# Altium footprint library STM32F334C6T6.PcbLib: 3 footprints
Each footprint in its own frame and in the unit in brackets; x right, y up, seen from the top. Pads: shape width x height; smd on the part's side, far side on the other; paste and mask are expansions set on the pad; w line width, h text height; cw(c..) or ccw(c..) is an arc to the next point about the centre after c.
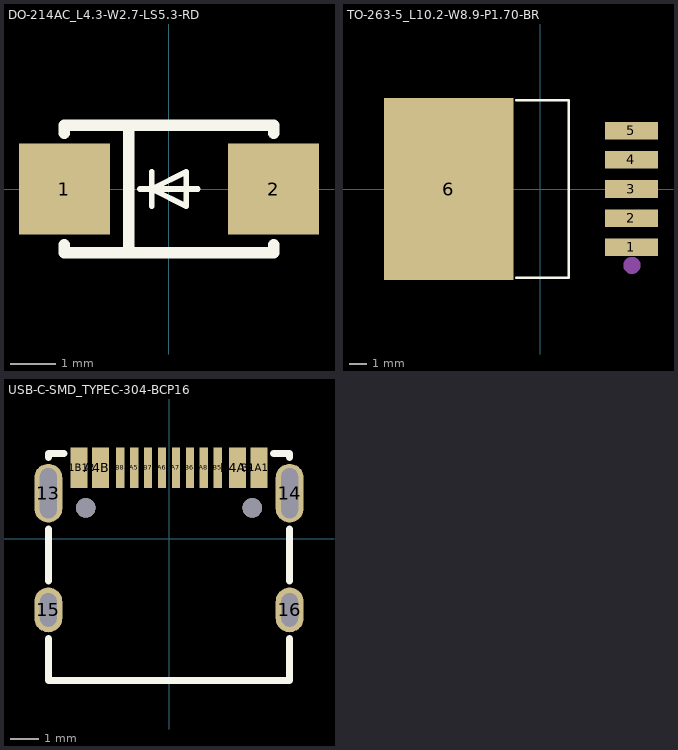
[diagram p0: the footprints below, top view; thin cyan lines are the x and y axes]

## DO-214AC_L4.3-W2.7-LS5.3-RD [mm]
pads (2):
  rect 2x2 smd: 1(-2.3,0) 2(2.3,0)
Top Overlay:
  lines w0.127: -0.635,0 0.635,0 ; -0.381,-0.381 -0.381,0 ; -0.381,0.381 -0.381,0 ; -0.381,0 0.381,-0.381 0.381,0 0.381,0.381 -0.381,0
  lines w0.254: -2.3,-1.231 -2.3,-1.4 2.3,-1.4 2.3,-1.231 ; -2.3,1.231 -2.3,1.4 2.3,1.4 2.3,1.231 ; -0.889,-1.4 -0.889,1.4
Mechanical 15:
  region: -2.98,-0.157 -2.983,-0.14 -2.983,0.076 -1.619,0.074 -1.61,0.053 -1.61,-0.164
  region: 2.281,0.447 2.281,-0.425 2.283,-0.427 2.39,-0.427 2.395,-0.422 2.395,0.447 2.39,0.452 2.273,0.452
  region: 2.995,0.028 1.617,0.028 1.617,0.136 1.72,0.142 2.987,0.14 2.991,0.144 2.991,0.032 2.993,0.03

## TO-263-5_L10.2-W8.9-P1.70-BR [mm]
pads (6):
  rect 3.083x1.02 smd: 1(5.31,-3.4) 2(5.31,-1.7) 3(5.31,0) 4(5.31,1.7) 5(5.31,3.4)
  rect 7.521x10.566 smd: 6(-5.31,0)
Top Overlay:
  lines w0.15: 1.182,-5.156 1.651,-5.156 ; 1.182,5.156 1.651,5.156
  lines w0.152: -1.397,-5.156 1.182,-5.156 ; -1.397,5.156 1.182,5.156 ; 1.651,-5.156 1.651,5.156
Mechanical 15:
  circle w0.5: c5.334,-4.445 r0.25

## USB-C-SMD_TYPEC-304-BCP16 [mm]
pads (18):
  oval 1x2.1 hole 0.6 slot 1.8 at 90 deg: 13(-4.32,1.633) 14(4.32,1.633)
  oval 1x1.6 hole 0.6 slot 1.2 at 90 deg: 15(-4.32,-2.547) 16(4.32,-2.547)
  rect 0.6x1.45 smd: A1B12(-3.225,2.547) A4B9(-2.45,2.547) B1A12(3.22,2.547) B4A9(2.45,2.547)
  rect 0.3x1.45 smd: A5(-1.25,2.547) A6(-0.25,2.547) A7(0.25,2.547) A8(1.25,2.547) B5(1.75,2.547) B6(0.75,2.547) B7(-0.75,2.547) B8(-1.75,2.547)
  round 0.7 hole 0.7 unplated: ""(-2.98,1.102) ""(2.98,1.102)
Top Overlay:
  lines w0.254: -4.318,-3.579 -4.318,-5.08 4.318,-5.08 4.318,-3.579 ; -4.318,-1.516 -4.318,0.351 ; -4.318,2.914 -4.318,3.048 -3.756,3.048 ; 3.751,3.048 4.318,3.048 4.318,2.914 ; 4.318,-1.516 4.318,0.351